# Altium schematic symbol library gini_base_sch.SCHLIB: 132 symbols
Pins are listed as number, name and electrical type; pins without a type are passive.

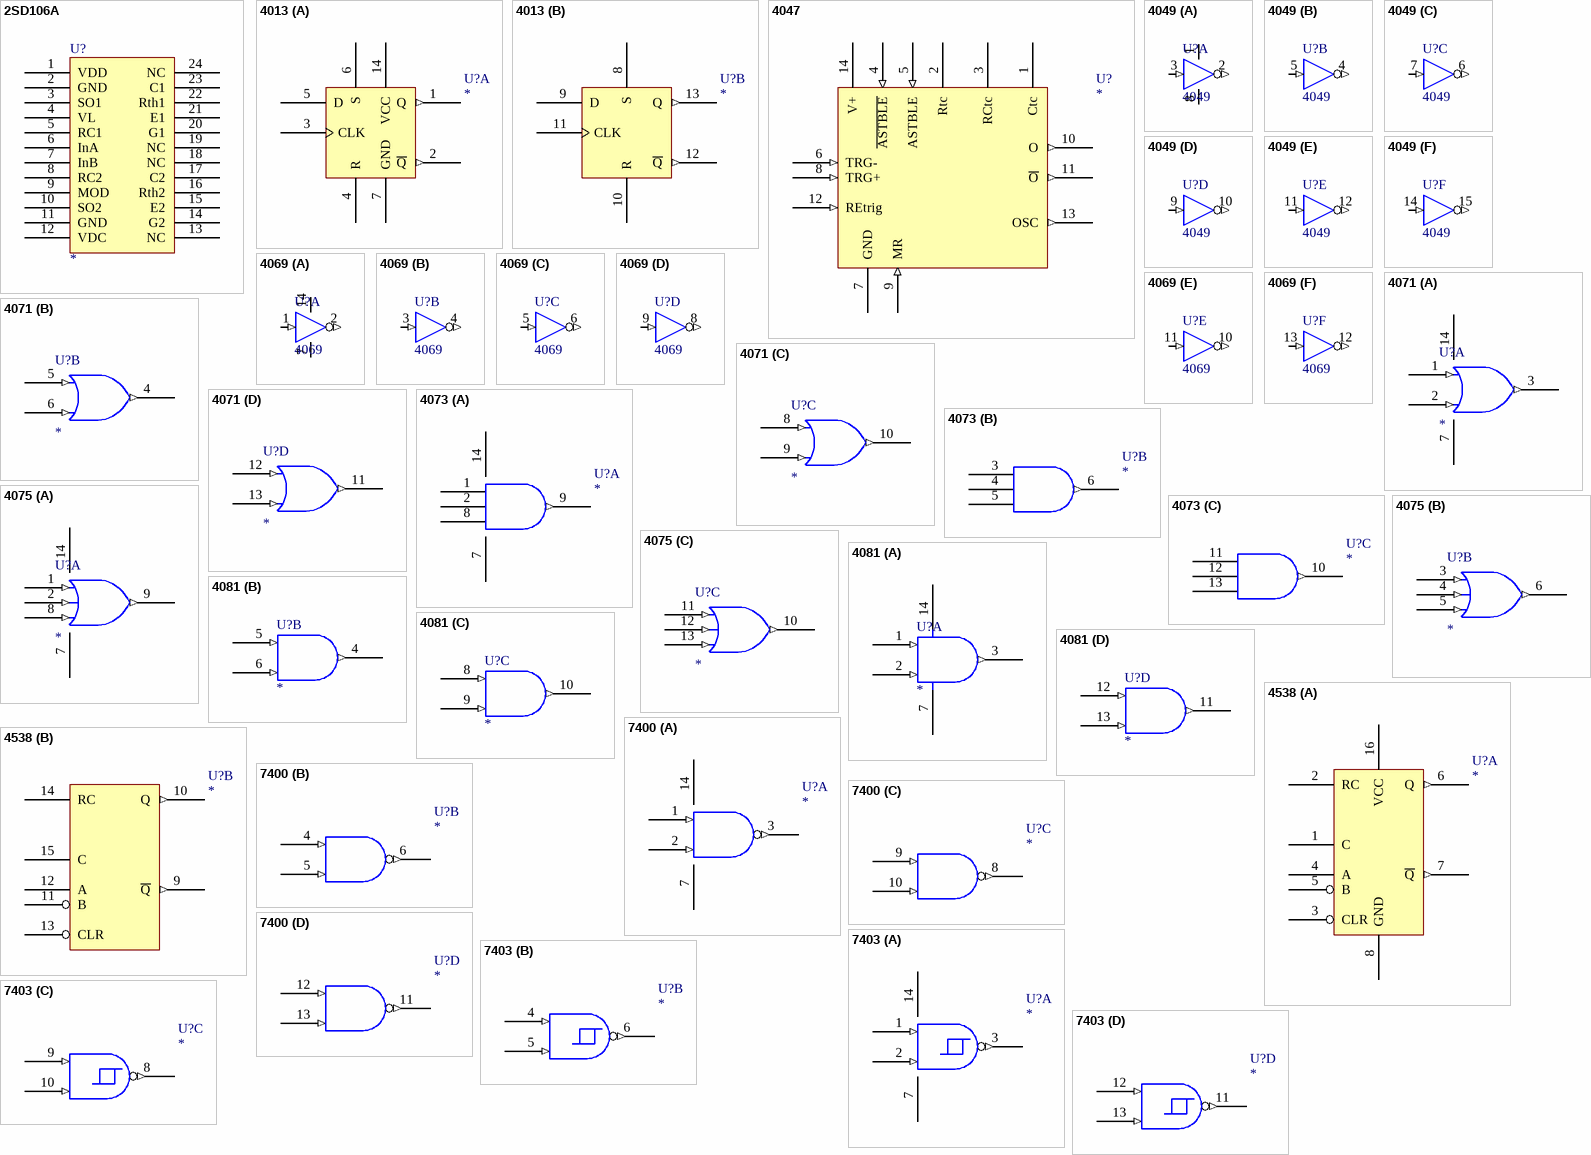
[diagram p0: symbols 2SD106A to 7403]

## 2SD106A
designator U?
pins: 1 VDD, 2 GND, 3 SO1, 4 VL, 5 RC1, 6 InA, 7 InB, 8 RC2, 9 MOD, 10 SO2, 11 GND, 12 VDC, 13 NC, 14 G2, 15 E2, 16 Rth2, 17 C2, 18 NC, 19 NC, 20 G1, 21 E1, 22 Rth1, 23 C1, 24 NC

## 4013
designator U?
footprint DIP14
part A pins: 1 Q (out), 2 ~{Q} (out), 3 CLK, 4 R, 5 D, 6 S, 7 GND, 14 VCC
part B pins: 8 S, 9 D, 10 R, 11 CLK, 12 ~{Q} (out), 13 Q (out)

## 4047
designator U?
footprint DIP14
pins: 1 Ctc, 2 Rtc, 3 RCtc, 4 ~{ASTBLE} (in), 5 ASTBLE (in), 6 TRG- (in), 7 GND, 8 TRG+ (in), 9 MR (in), 10 O (out), 11 ~{O} (out), 12 REtrig (in), 13 OSC (out), 14 V+

## 4049
designator U?
footprint DIP16
footprint SO-16
part A pins: 1 Vcc (power), 2 /1Y (out), 3 1A (in), 8 GND (power)
part B pins: 4 /2Y (out), 5 2A (in)
part C pins: 6 /3Y (out), 7 3A (in)
part D pins: 9 4A (in), 10 /4Y (out)
part E pins: 11 5A (in), 12 /5Y (out)
part F pins: 14 6A (in), 15 /6Y (out)

## 4069
designator U?
footprint DIP14
footprint SO-14
part A pins: 1 1A (in), 2 /1Y (out), 7 GND (power), 14 Vcc (power)
part B pins: 3 2A (in), 4 /2Y (out)
part C pins: 5 3A (in), 6 /3Y (out)
part D pins: 8 /4Y (out), 9 4A (in)
part E pins: 10 /5Y (out), 11 5A (in)
part F pins: 12 /6Y (out), 13 6A (in)

## 4071
designator U?
footprint DIP14
part A pins: 1 (in), 2 (in), 3 (out), 7 GND, 14 VCC
part B pins: 4 (out), 5 (in), 6 (in)
part C pins: 8 (in), 9 (in), 10 (out)
part D pins: 11 (out), 12 (in), 13 (in)

## 4073
designator U?
footprint DIP14
part A pins: 1, 2, 7 GND, 8, 9 (out), 14 VCC
part B pins: 3, 4, 5, 6 (out)
part C pins: 10 (out), 11, 12, 13

## 4075
designator U?
footprint DIP14
part A pins: 1 (in), 2 (in), 7 GND, 8 (in), 9 (out), 14 VCC
part B pins: 3 (in), 4 (in), 5 (in), 6 (out)
part C pins: 10 (out), 11 (in), 12 (in), 13 (in)

## 4081
designator U?
footprint DIP14
part A pins: 1 (in), 2 (in), 3 (out), 7 GND, 14 VCC
part B pins: 4 (out), 5 (in), 6 (in)
part C pins: 8 (in), 9 (in), 10 (out)
part D pins: 11 (out), 12 (in), 13 (in)

## 4538
designator U?
footprint DIP16
part A pins: 1 C, 2 RC, 3 CLR, 4 A, 5 B, 6 Q (out), 7 ~{Q} (out), 8 GND, 16 VCC
part B pins: 9 ~{Q} (out), 10 Q (out), 11 B, 12 A, 13 CLR, 14 RC, 15 C

## 7400
designator U?
footprint DIP-14
part A pins: 1 (in), 2 (in), 3 (out), 7 GND, 14 VCC
part B pins: 4 (in), 5 (in), 6 (out)
part C pins: 8 (out), 9 (in), 10 (in)
part D pins: 11 (out), 12 (in), 13 (in)

## 7403
designator U?
footprint DIP-14
part A pins: 1 (in), 2 (in), 3 (out), 7 GND, 14 VCC
part B pins: 4 (in), 5 (in), 6 (out)
part C pins: 8 (out), 9 (in), 10 (in)
part D pins: 11 (out), 12 (in), 13 (in)

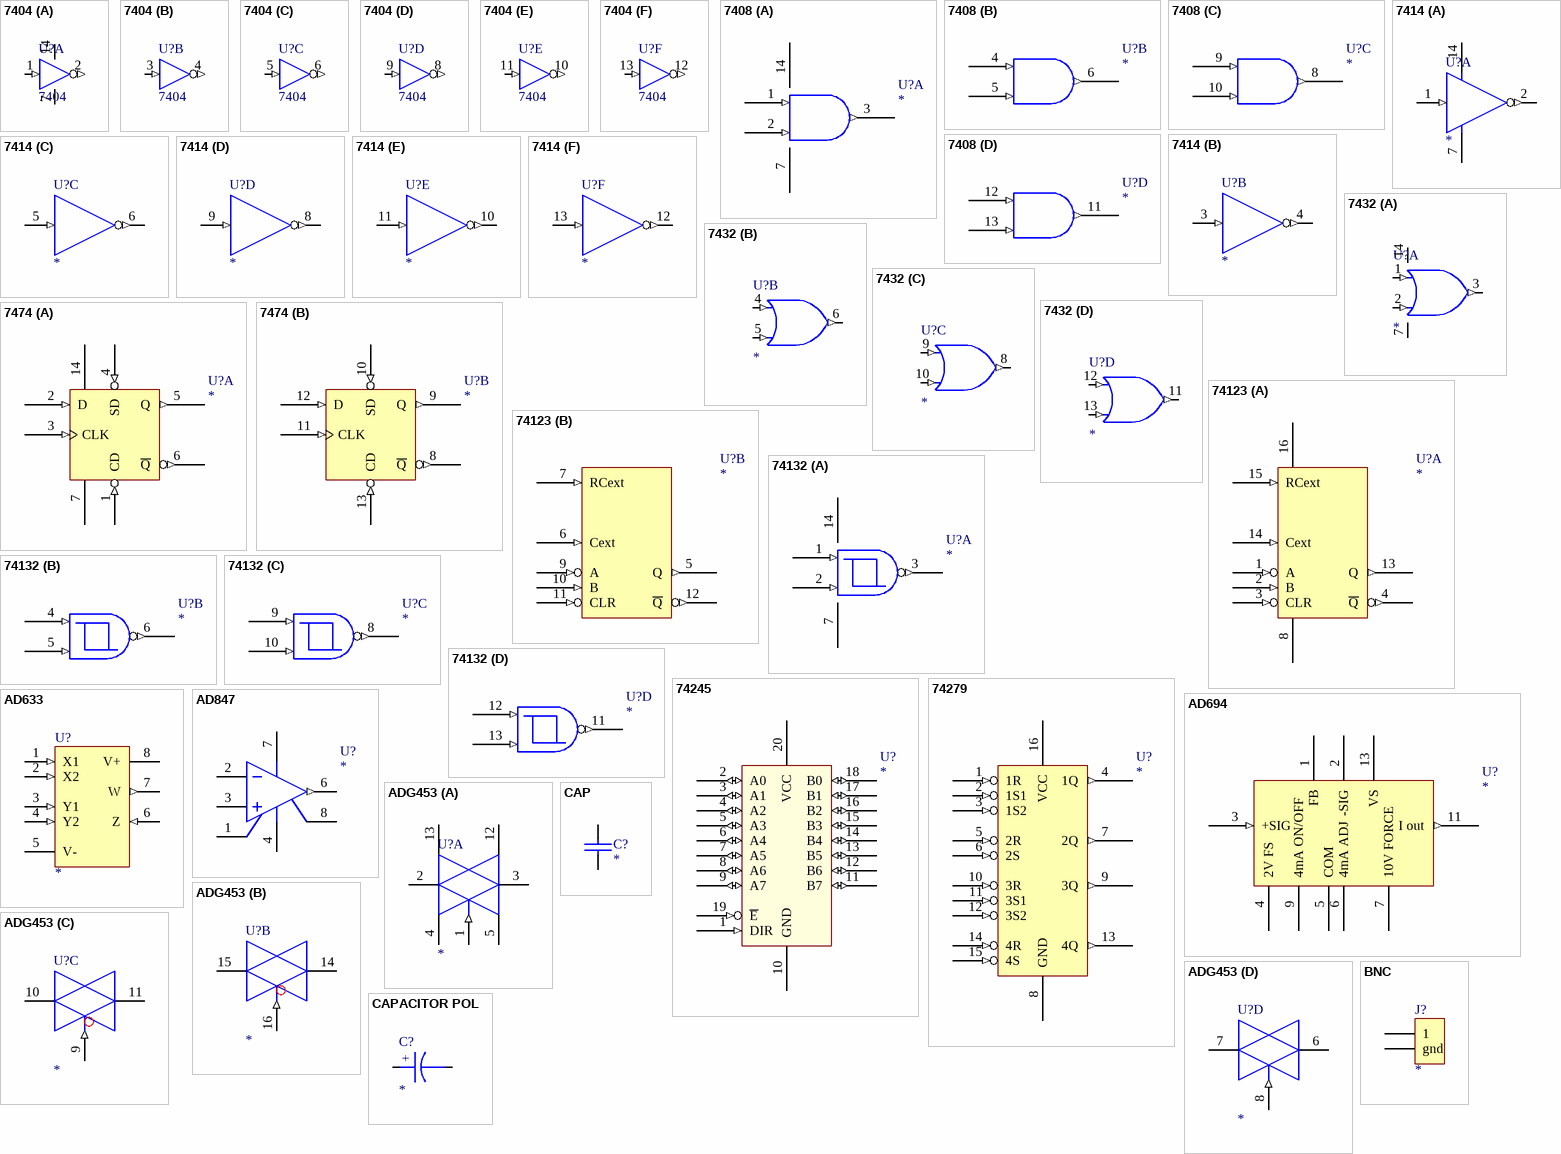
[diagram p1: symbols 7404 to CAPACITOR POL]

## 7404
designator U?
footprint DIP14
footprint SO-14
part A pins: 1 1A (in), 2 /1Y (out), 7 GND (power), 14 Vcc (power)
part B pins: 3 2A (in), 4 /2Y (out)
part C pins: 5 3A (in), 6 /3Y (out)
part D pins: 8 /4Y (out), 9 4A (in)
part E pins: 10 /5Y (out), 11 5A (in)
part F pins: 12 /6Y (out), 13 6A (in)

## 7408
designator U?
footprint DIP14
part A pins: 1 (in), 2 (in), 3 (out), 7 GND, 14 VCC
part B pins: 4 (in), 5 (in), 6 (out)
part C pins: 8 (out), 9 (in), 10 (in)
part D pins: 11 (out), 12 (in), 13 (in)

## 7414
designator U?
footprint DIP14
footprint SO-14
part A pins: 1 (in), 2 (out), 7 GND, 14 V+
part B pins: 3 (in), 4 (out)
part C pins: 5 (in), 6 (out)
part D pins: 8 (out), 9 (in)
part E pins: 10 (out), 11 (in)
part F pins: 12 (out), 13 (in)
2 alternate drawings of the same symbol

## 7432
designator U?
7432 74HC32 74HCT32
footprint DIP14
footprint SO-14
part A pins: 1 (in), 2 (in), 3 (out), 7 GND, 14 VCC
part B pins: 4 (in), 5 (in), 6 (out)
part C pins: 8 (out), 9 (in), 10 (in)
part D pins: 11 (out), 12 (in), 13 (in)

## 7474
designator U?
footprint DIP-14
part A pins: 1 CD (in), 2 D (in), 3 CLK (in), 4 SD (in), 5 Q (out), 6 ~{Q} (out), 7 GND, 14 VCC
part B pins: 8 ~{Q} (out), 9 Q (out), 10 SD (in), 11 CLK (in), 12 D (in), 13 CD (in)

## 74123
designator U?
footprint DIP-16
part A pins: 1 A (in), 2 B (in), 3 CLR (in), 4 ~{Q} (out), 8 GND, 13 Q (out), 14 Cext (in), 15 RCext (in), 16 VCC
part B pins: 5 Q (out), 6 Cext (in), 7 RCext (in), 9 A (in), 10 B (in), 11 CLR (in), 12 ~{Q} (out)

## 74132
designator U?
footprint DIP-14
part A pins: 1 (in), 2 (in), 3 (out), 7 GND, 14 VCC
part B pins: 4 (in), 5 (in), 6 (out)
part C pins: 8 (out), 9 (in), 10 (in)
part D pins: 11 (out), 12 (in), 13 (in)

## 74245
designator U?
footprint DIP20
pins: 1 DIR (in), 2 A0 (io), 3 A1 (io), 4 A2 (io), 5 A3 (io), 6 A4 (io), 7 A5 (io), 8 A6 (io), 9 A7 (io), 10 GND, 11 B7 (io), 12 B6 (io), 13 B5 (io), 14 B4 (io), 15 B3 (io), 16 B2 (io), 17 B1 (io), 18 B0 (io), 19 ~{E} (in), 20 VCC

## 74279
designator U?
footprint DIP16
pins: 1 1R (in), 2 1S1 (in), 3 1S2 (in), 4 1Q (out), 5 2R (in), 6 2S (in), 7 2Q (out), 8 GND, 9 3Q (out), 10 3R (in), 11 3S1 (in), 12 3S2 (in), 13 4Q (out), 14 4R (in), 15 4S (in), 16 VCC

## AD633
designator U?
Text Field6: Published 8-Jun-2000, Modified 10-July-2000: SIM Model Added.
footprint DIP8
simulation model AD633J (SUBCKT)
pins: 1 X1 (in), 2 X2 (in), 3 Y1 (in), 4 Y2 (in), 5 V-, 6 Z (in), 7 W (out), 8 V+

## AD694
designator U?
footprint DIP16
pins: 1 FB, 2 -SIG, 3 +SIG (in), 4 2V FS, 5 COM, 6 4mA ADJ, 7 10V FORCE, 9 4mA ON/OFF, 11 I out (out), 13 VS

## AD847
designator U?
simulation model AD847 (SUBCKT)
footprint DIP8
pins: 1 TRIM, 2 IN-, 3 IN+, 4 V-, 6 OUT (out), 7 V+, 8 TRIM

## ADG453
designator U?
footprint DIP16
part A pins: 1 IN1 (in), 2 D1, 3 S1, 4 VSS, 5 GND, 12 VL, 13 VDD
part B pins: 14 S2, 15 D2, 16 IN2 (in)
part C pins: 9 IN3 (in), 10 D3, 11 S3
part D pins: 6 S4, 7 D4, 8 IN4 (in)

## BNC
designator J?
pins: 1, 2 gnd

## CAP
designator C?
footprint C1206C (Footprint not found)
footprint RAD0.2_2
footprint RAD0.2_1
pins: 1, 2

## CAPACITOR POL
designator C?
footprint RB.2/.4
footprint RB.2/.6
footprint RB.1/.3
footprint RB.3/.9
footprint RB.4/.18
footprint RB.5/.18
pins: 1, 2
text: +

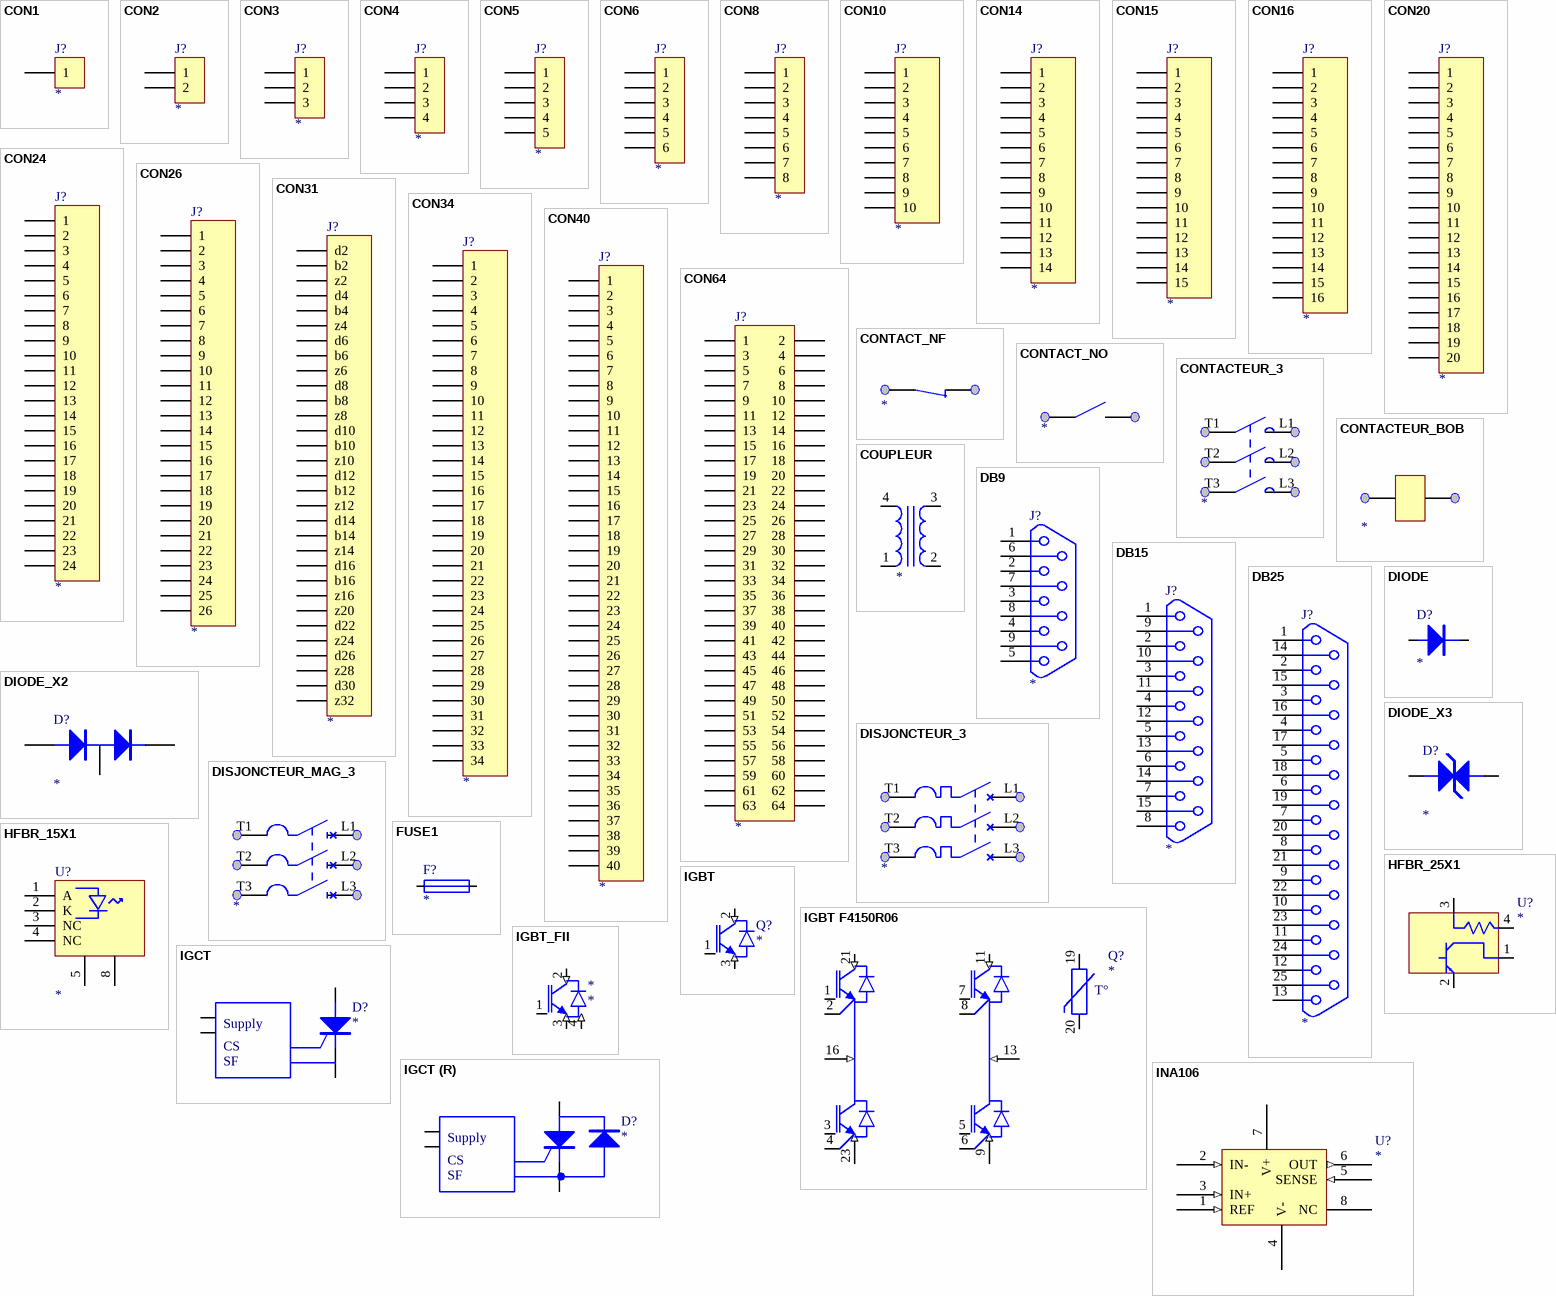
[diagram p2: symbols CON1 to INA106]

## CON1
designator J?
footprint PATTE_3.5B1
footprint PATTE_4.5B
pins: 1

## CON2
designator J?
footprint HE15-2
footprint SIP2
pins: 1, 2

## CON3
designator J?
footprint SIP3
footprint HE15-3
pins: 1, 2, 3

## CON4
designator J?
footprint SIP4
footprint SIP4_1
footprint SIP4_COUDE
pins: 1, 2, 3, 4

## CON5
designator J?
pins: 1, 2, 3, 4, 5

## CON6
designator J?
pins: 1, 2, 3, 4, 5, 6

## CON8
designator J?
footprint SIP8
pins: 1, 2, 3, 4, 5, 6, 7, 8

## CON10
designator J?
pins: 1, 2, 3, 4, 5, 6, 7, 8, 9, 10

## CON14
designator J?
pins: 1, 2, 3, 4, 5, 6, 7, 8, 9, 10, 11, 12, 13, 14

## CON15
designator J?
pins: 1, 2, 3, 4, 5, 6, 7, 8, 9, 10, 11, 12, 13, 14, 15

## CON16
designator J?
pins: 1, 2, 3, 4, 5, 6, 7, 8, 9, 10, 11, 12, 13, 14, 15, 16

## CON20
designator J?
pins: 1, 2, 3, 4, 5, 6, 7, 8, 9, 10, 11, 12, 13, 14, 15, 16, 17, 18, 19, 20

## CON24
designator J?
pins: 1, 2, 3, 4, 5, 6, 7, 8, 9, 10, 11, 12, 13, 14, 15, 16, 17, 18, 19, 20, 21, 22, 23, 24

## CON26
designator J?
pins: 1, 2, 3, 4, 5, 6, 7, 8, 9, 10, 11, 12, 13, 14, 15, 16, 17, 18, 19, 20, 21, 22, 23, 24, 25, 26

## CON31
designator J?
pins: 1 d2, 2 b2, 3 z2, 4 d4, 5 b4, 6 z4, 7 d6, 8 b6, 9 z6, 10 d8, 11 b8, 12 z8, 13 d10, 14 b10, 15 z10, 16 d12, 17 b12, 18 z12, 19 d14, 20 b14, 21 z14, 22 d16, 23 b16, 24 z16, 25 z20, 26 d22, 27 z24, 28 d26, 29 z28, 30 d30, 31 z32

## CON34
designator J?
pins: 1, 2, 3, 4, 5, 6, 7, 8, 9, 10, 11, 12, 13, 14, 15, 16, 17, 18, 19, 20, 21, 22, 23, 24, 25, 26, 27, 28, 29, 30, 31, 32, 33, 34

## CON40
designator J?
pins: 1, 2, 3, 4, 5, 6, 7, 8, 9, 10, 11, 12, 13, 14, 15, 16, 17, 18, 19, 20, 21, 22, 23, 24, 25, 26, 27, 28, 29, 30, 31, 32, 33, 34, 35, 36, 37, 38, 39, 40

## CON64
designator J?
pins: 1, 2, 3, 4, 5, 6, 7, 8, 9, 10, 11, 12, 13, 14, 15, 16, 17, 18, 19, 20, 21, 22, 23, 24, 25, 26, 27, 28, 29, 30, 31, 32, 33, 34, 35, 36, 37, 38, 39, 40, 41, 42, 43, 44, 45, 46, 47, 48, 49, 50, 51, 52, 53, 54, 55, 56, 57, 58, 59, 60, 61, 62, 63, 64

## CONTACT_NF
designator ?
pins: 67, 68

## CONTACT_NO
designator ?
pins: 1, 2

## CONTACTEUR_3
designator ?
pins: L1, L2, L3, T1, T2, T3

## CONTACTEUR_BOB
designator ?
pins: 68, 68

## COUPLEUR
designator ?
pins: 1, 2, 3, 4

## DB9
designator J?
pins: 1, 2, 3, 4, 5, 6, 7, 8, 9

## DB15
designator J?
pins: 1, 2, 3, 4, 5, 6, 7, 8, 9, 10, 11, 12, 13, 14, 15

## DB25
designator J?
pins: 1, 2, 3, 4, 5, 6, 7, 8, 9, 10, 11, 12, 13, 14, 15, 16, 17, 18, 19, 20, 21, 22, 23, 24, 25

## DIODE
designator D?
footprint DIODE0.4-1
footprint DIODE0.4
footprint DIODE0.5
pins: 1 A, 2 K

## DIODE_X2
designator D?
pins: 1 A, 2 K, 3 A-K

## DIODE_X3
designator D?
pins: 1 A1, 2 A2

## DISJONCTEUR_3
designator ?
pins: L1, L2, L3, T1, T2, T3

## DISJONCTEUR_MAG_3
designator ?
pins: L1, L2, L3, T1, T2, T3

## FUSE1
designator F?
pins: 1, 2

## HFBR_15X1
designator U?
footprint DIP8
pins: 1 A, 2 K, 3 NC, 4 NC, 5 NC, 8 NC

## HFBR_25X1
designator U?
footprint DIP8
pins: 1 VO, 2 GND, 3 VCC, 4 VR

## IGBT
designator Q?
simulation model IGBT (NPN)
pins: 1 G (in), 2 C (in), 3 E (in)
1 alternate drawing of the same symbol

## IGBT F4150R06
designator Q?
simulation model IGBT F4150R06 (NPN)
pins: 1 (in), 2, 3 (in), 4, 5 (in), 6, 7 (in), 8, 9 (in), 11 (in), 13 (in), 16 (in), 19, 20, 21 (in), 23 (in)
1 alternate drawing of the same symbol
text: T°

## IGBT_FII
designator *
pins: 1 G (in), 2 C (in), 3 E (in), 4 E (in)

## IGCT
designator D?
pins: 1 A, 2 K, 3, 4
text: Supply; CS; SF

## IGCT (R)
designator D?
pins: 1 A, 2 K, 3, 4
text: Supply; CS; SF

## INA106
designator U?
footprint DIP8
pins: 1 REF (in), 2 IN- (in), 3 IN+ (in), 4 V-, 5 SENSE (in), 6 OUT (out), 7 V+, 8 NC

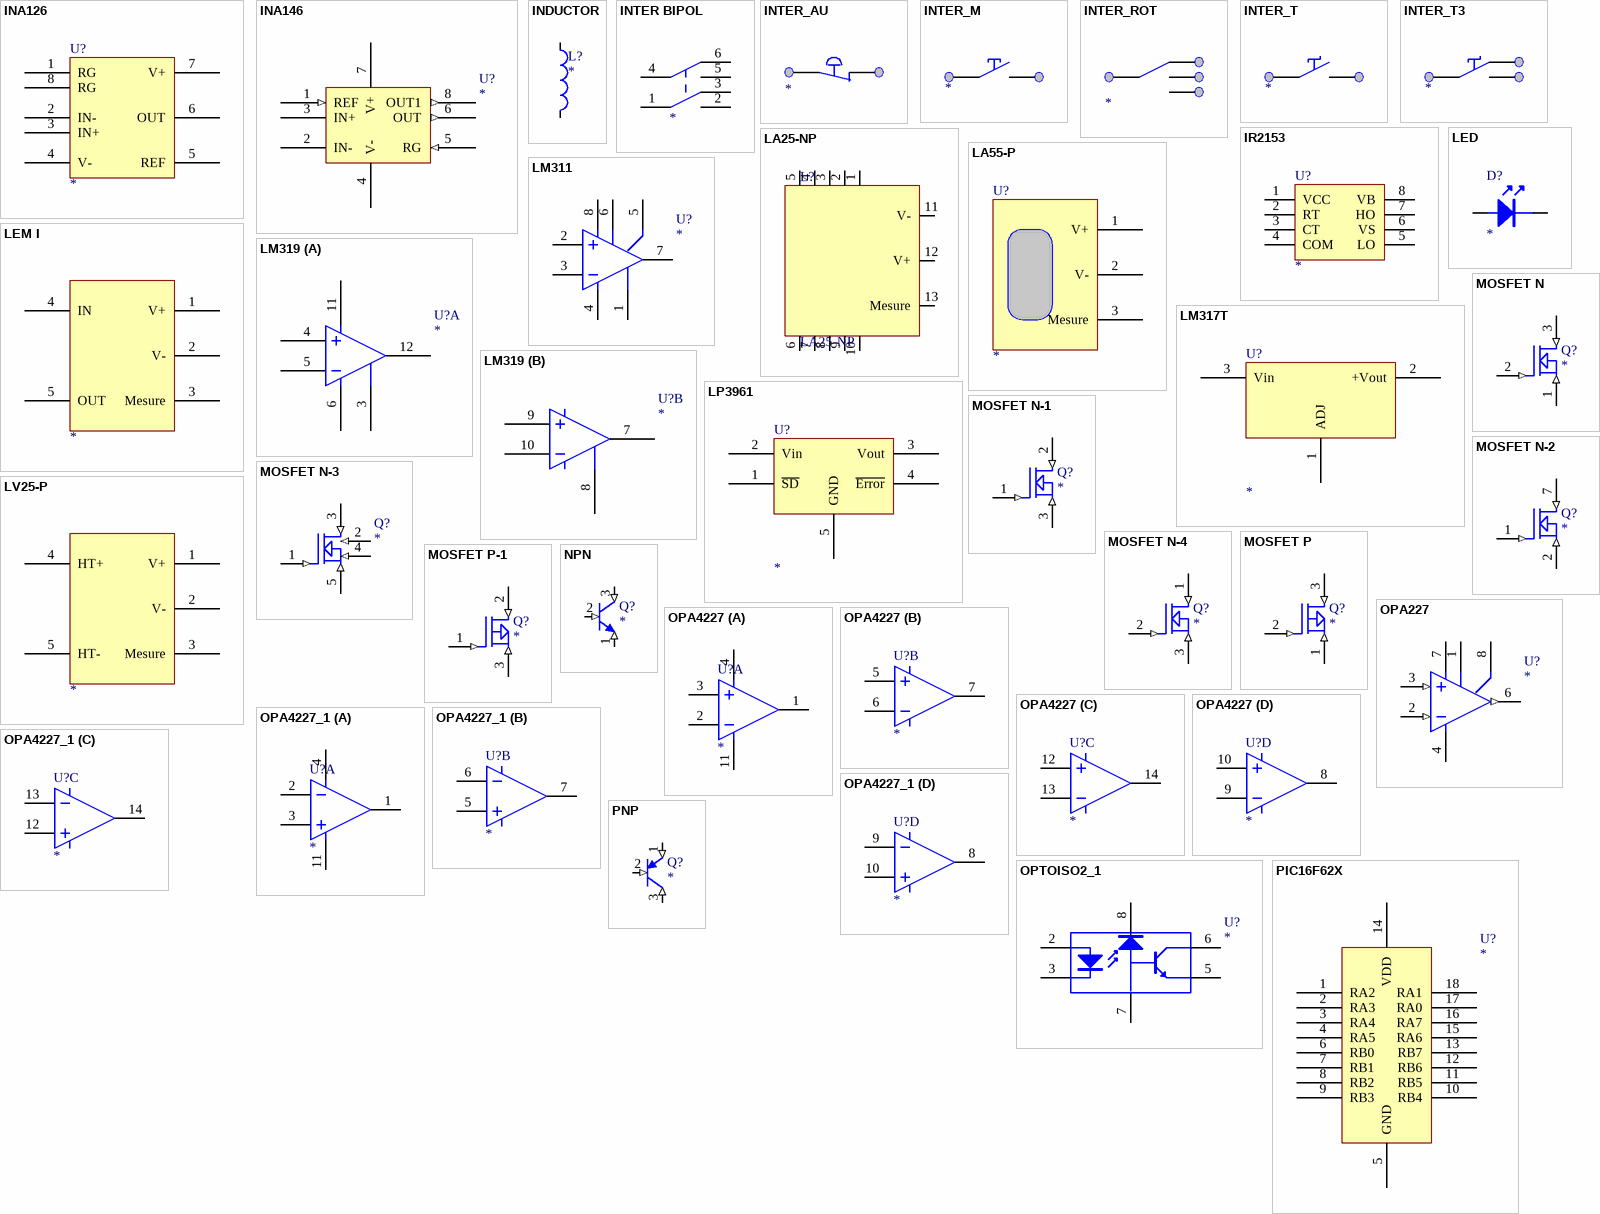
[diagram p3: symbols INA126 to PNP]

## INA126
designator U?
footprint DIP8
pins: 1 RG, 2 IN-, 3 IN+, 4 V-, 5 REF, 6 OUT, 7 V+, 8 RG

## INA146
designator U?
footprint DIP8
pins: 1 REF (in), 2 IN-, 3 IN+, 4 V-, 5 RG (in), 6 OUT (out), 7 V+, 8 OUT1 (out)

## INDUCTOR
designator L?
pins: 1, 2

## INTER BIPOL
designator ?
pins: 1 COM, 2 NO, 3 NF, 4 COM, 5 NO, 6 NF

## INTER_AU
designator ?
pins: 67, 68

## INTER_M
designator ?
pins: 67, 68

## INTER_ROT
designator ?
pins: 67, 67, 67, 68

## INTER_T
designator ?
pins: 67, 68

## INTER_T3
designator ?
pins: 67, 67, 68

## IR2153
designator U?
footprint DIP8
pins: 1 VCC, 2 RT, 3 CT, 4 COM, 5 LO, 6 VS, 7 HO, 8 VB

## LA25-NP
designator L?
footprint LA25-NP
pins: 1, 2, 3, 4, 5, 6, 7, 8, 9, 10, 11 V-, 12 V+, 13 Mesure

## LA55-P
designator U?
footprint LA55-P
pins: 1 V+, 2 V-, 3 Mesure

## LED
designator D?
pins: A 1, K 2

## LEM I
designator ?
pins: 1 V+, 2 V-, 3 Mesure, 4 IN, 5 OUT

## LM311
designator U?
footprint DIP8
pins: 1 GND, 2, 3, 4 V-, 5, 6, 7, 8 V+

## LM317T
designator U?
pins: 1 ADJ, 2 +Vout, 3 Vin

## LM319
designator U?
footprint DIP14
part A pins: 3, 4, 5, 6, 11, 12
part B pins: 7, 8, 9, 10

## LP3961
designator U?
pins: 1 ~{SD}, 2 Vin, 3 Vout, 4 ~{Error}, 5 GND

## LV25-P
designator ?
pins: 1 V+, 2 V-, 3 Mesure, 4 HT+, 5 HT-

## MOSFET N
designator Q?
pins: 1 S (in), 2 G (in), 3 D (in)

## MOSFET N-1
designator Q?
pins: 1 G (in), 2 D (in), 3 S (in)

## MOSFET N-2
designator Q?
pins: 1 G (in), 2 S (in), 7 D (in)

## MOSFET N-3
designator Q?
pins: 1 G (in), 2 C (in), 3 D (in), 4 K (in), 5 S (in)

## MOSFET N-4
designator Q?
pins: 1 D (in), 2 G (in), 3 S (in)

## MOSFET P
designator Q?
pins: 1 S (in), 2 G (in), 3 D (in)

## MOSFET P-1
designator Q?
pins: 1 G (in), 2 D (in), 3 S (in)

## NPN
designator Q?
simulation model NPN
pins: 1 E (in), 2 B (in), 3 C (in)
1 alternate drawing of the same symbol

## OPA227
designator U?
footprint DIP8
pins: 1 TRIM, 2 (in), 3 (in), 4 V-, 6 (out), 7 V+, 8 TRIM

## OPA4227
designator U?
footprint DIP14
part A pins: 1, 2, 3, 4, 11
part B pins: 5, 6, 7
part C pins: 12, 13, 14
part D pins: 8, 9, 10

## OPA4227_1
designator U?
footprint DIP14
part A pins: 1, 2, 3, 4, 11
part B pins: 5, 6, 7
part C pins: 12, 13, 14
part D pins: 8, 9, 10

## OPTOISO2_1
designator U?
footprint DIP8
pins: 2 A, 3 K, 5 E, 6 C, 7 B1, 8 B

## PIC16F62X
designator U?
pins: 1 RA2, 2 RA3, 3 RA4, 4 RA5, 5 GND, 6 RB0, 7 RB1, 8 RB2, 9 RB3, 10 RB4, 11 RB5, 12 RB6, 13 RB7, 14 VDD, 15 RA6, 16 RA7, 17 RA0, 18 RA1

## PNP
designator Q?
simulation model PNP
pins: 1 E (in), 2 B (in), 3 C (in)
1 alternate drawing of the same symbol

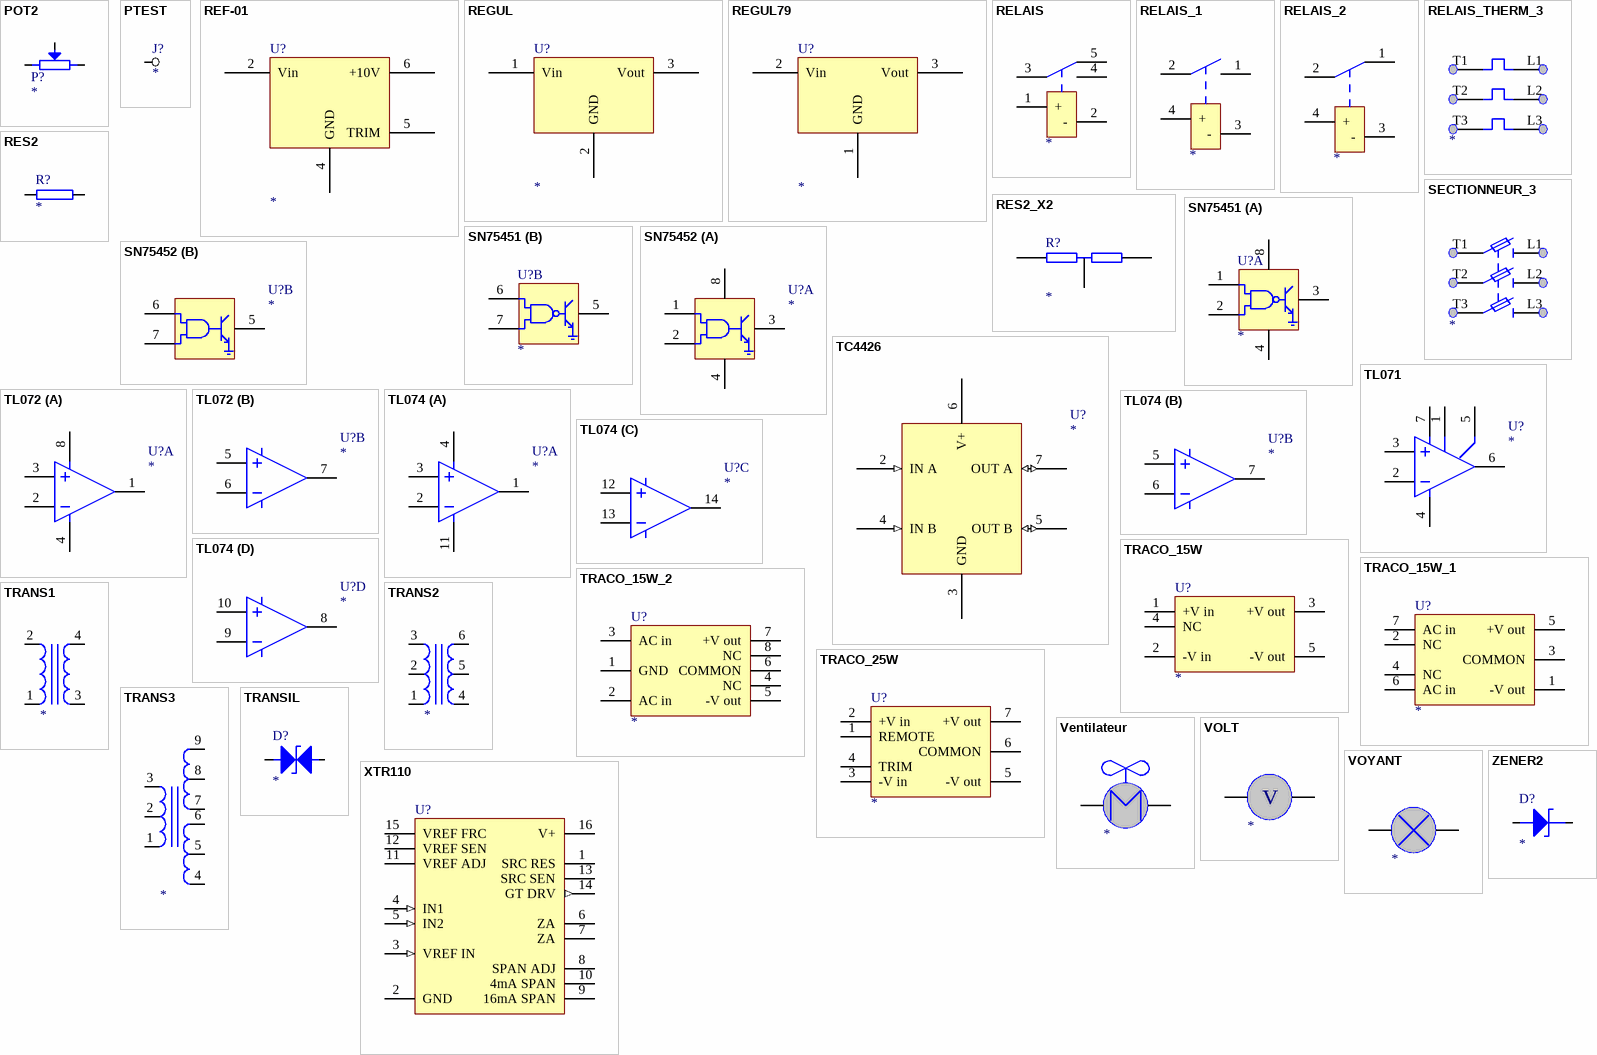
[diagram p4: symbols POT2 to ZENER2]

## POT2
designator P?
footprint VR5 (Potentiometre)
pins: 1, 2 W, 3 2

## PTEST
designator J?
footprint PTest
pins: 1 T

## REF-01
designator U?
footprint DIP8
pins: 2 Vin, 4 GND, 5 TRIM, 6 +10V

## REGUL
designator U?
pins: 1 Vin, 2 GND, 3 Vout

## REGUL79
designator U?
pins: 1 GND, 2 Vin, 3 Vout

## RELAIS
designator ?
pins: 1 +, 2 -, 3 COM, 4 NO, 5 NF

## RELAIS_1
designator ?
pins: 1 NO, 2 COM, 3 -, 4 +

## RELAIS_2
designator ?
pins: 1 NF, 2 COM, 3 -, 4 +

## RELAIS_THERM_3
designator ?
pins: L1, L2, L3, T1, T2, T3

## RES2
designator R?
footprint AXIAL0.4
footprint AXIAL0.5
footprint AXIAL0.8
footprint C0805R
footprint C1206R
pins: 1, 2

## RES2_X2
designator R?
pins: 1, 2, 3

## SECTIONNEUR_3
designator ?
pins: L1, L2, L3, T1, T2, T3

## SN75451
designator U?
footprint DIP8
part A pins: 1 1A, 2 1B, 3 1Y, 4 GND, 8 V+
part B pins: 5 2Y, 6 2A, 7 2B

## SN75452
designator U?
footprint DIP8
part A pins: 1 1A, 2 1B, 3 1Y, 4 GND, 8 V+
part B pins: 5 2Y, 6 2A, 7 2B

## TC4426
designator U?
footprint DIP8
pins: 2 IN A (in), 3 GND, 4 IN B (in), 5 OUT B (io), 6 V+, 7 OUT A (io)

## TL071
designator U?
footprint DIP8
footprint SO-8
pins: 1, 2, 3, 4 V-, 5, 6, 7 V+

## TL072
designator U?
footprint DIP8
part A pins: 1, 2, 3, 4, 8
part B pins: 5, 6, 7

## TL074
designator U?
footprint DIP14
part A pins: 1, 2, 3, 4, 11
part B pins: 5, 6, 7
part C pins: 12, 13, 14
part D pins: 8, 9, 10

## TRACO_15W
designator U?
pins: 1 +V in, 2 -V in, 3 +V out, 4 NC, 5 -V out

## TRACO_15W_1
designator U?
pins: 1 -V out, 2 NC, 3 COMMON, 4 NC, 5 +V out, 6 AC in, 7 AC in

## TRACO_15W_2
designator U?
pins: 1 GND, 2 AC in, 3 AC in, 4 NC, 5 -V out, 6 COMMON, 7 +V out, 8 NC

## TRACO_25W
designator U?
pins: 1 REMOTE, 2 +V in, 3 -V in, 4 TRIM, 5 -V out, 6 COMMON, 7 +V out

## TRANS1
designator ?
pins: 1, 2, 3, 4

## TRANS2
designator ?
pins: 1, 2, 3, 4, 5, 6

## TRANS3
designator ?
pins: 1, 2, 3, 4, 5, 6, 7, 8, 9

## TRANSIL
designator D?
pins: 1 A, 2 K

## Ventilateur
designator ?
pins: 70, 71

## VOLT
designator ?
pins: 70, 71
text: V

## VOYANT
designator ?
pins: 70, 71

## XTR110
designator U?
PackageDocument: revD; Published: 8-Jun-2000; LatestRevisionDate: 17-Jul-2002; LatestRevisionNote: Re-released for DXP Platform.; DatasheetDocument: Sep-1993; PackageReference: 109D; Publisher: Altium Limited; ComponentLink1Description: Manufacturer Link; ComponentLink1URL: http://www.ti.com/
footprint DIP16
pins: 1 SRC RES, 2 GND, 3 VREF IN (in), 4 IN1 (in), 5 IN2 (in), 6 ZA, 7 ZA, 8 SPAN ADJ, 9 16mA SPAN, 10 4mA SPAN, 11 VREF ADJ, 12 VREF SEN, 13 SRC SEN, 14 GT DRV (out), 15 VREF FRC, 16 V+

## ZENER2
designator D?
pins: 1 A, 2 K